# Altium footprint library CAP-SMD-1206.PcbLib: 1 footprints
Each footprint in its own frame and in the unit in brackets; x right, y up, seen from the top. Pads: shape width x height; smd on the part's side, far side on the other; paste and mask are expansions set on the pad; w line width, h text height; cw(c..) or ccw(c..) is an arc to the next point about the centre after c.
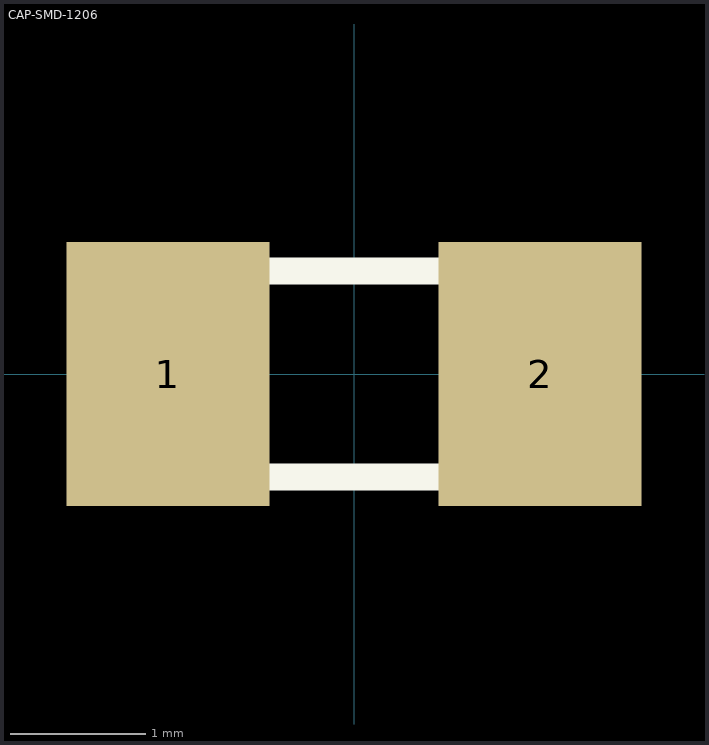
[diagram p0: the footprint, top view; thin cyan lines are the x and y axes]

## CAP-SMD-1206 [mm] "Capacitor Tantalio SMD 1206"
pads (2):
  rect 1.5x1.95 smd: 1(-1.375,0) 2(1.375,0)
Top Overlay:
  lines w0.2: -1.651,-0.762 -1.651,0.762 1.651,0.762 1.651,-0.762 -1.651,-0.762
  lines w0.254: -0.889,-0.508 -0.889,0.508
3D body "CAP-SMD-3216.stp": height 1.9, standoff -0.05, extent -1.7,-0.8 1.7,0.8